# Altium footprint library 2021-03-05_17-49-49.PcbLib: 1 footprints
Each footprint in its own frame and in the unit in brackets; x right, y up, seen from the top. Pads: shape width x height; smd on the part's side, far side on the other; paste and mask are expansions set on the pad; w line width, h text height; cw(c..) or ccw(c..) is an arc to the next point about the centre after c.
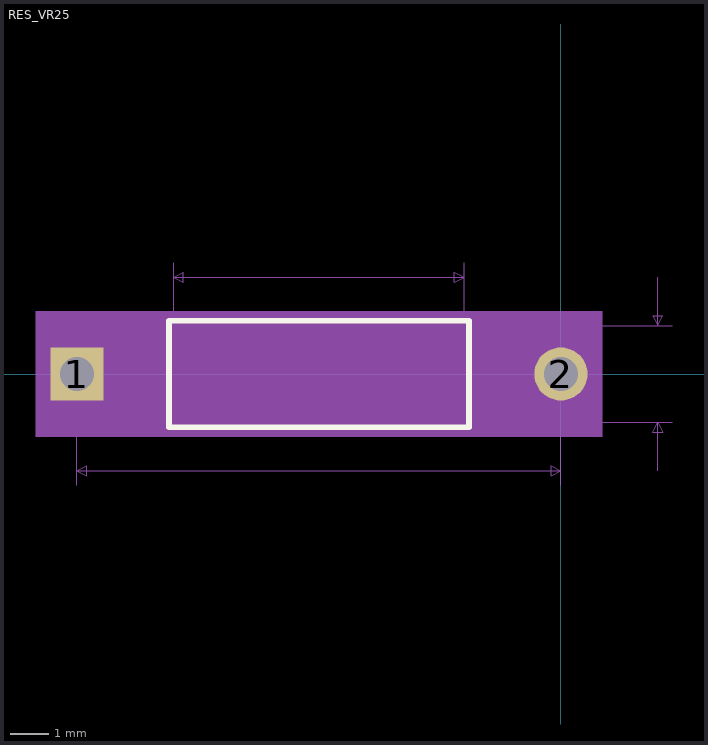
[diagram p0: the footprint, top view; thin cyan lines are the x and y axes]

## RES_VR25 [mil]
pads (2):
  rect 55x55 hole 35: 1(-500,0)
  round 55 hole 35: 2(0,0)
Top Overlay:
  lines w6: -405,-55 -405,55 -95,55 -95,-55 -405,-55
Mechanical 5:
  region: 42.5,-65 -542.5,-65 -542.5,65 42.5,65
Mechanical 7:
  lines w1: -500,-115 -500,0 ; -400,50 -400,115 ; -100,-50 115,-50 ; -100,115 -100,50 115,50 ; 0,-115 0,0 ; 100,-100 100,-50 ; 100,100 100,50 ; -500,-100 -490,-105 -490,-95 -500,-100 ; -500,-100 0,-100 ; -400,100 -390,95 -390,105 -400,100 ; -400,100 -100,100 ; -100,100 -110,95 -110,105 -100,100 ; 0,-100 -10,-105 -10,-95 0,-100 ; 100,-50 105,-60 95,-60 100,-50 ; 100,50 105,60 95,60 100,50
  text "0.3in/7.62mm" at -325,120 h25
  text "0.5in/12.7mm" at -325,-145 h25
  text "0.1in/2.54mm" at 120,-12.5 h25
  text "Alt 2 Pad Style: OX90Y60D30P" at -600,-480 h50
  text "Alt 1 Pad Style: OX60Y90D30P" at -600,-405 h50
  text "Default Pad Style: EX55Y55D35P" at -625,-330 h50
  text "Pin 1 Pad Style: SX55Y55D35P" at -600,-255 h50
Mechanical 13:
  lines w1: -500,0 -400,0 ; -100,0 0,0 ; -400,-50 -400,50 -100,50 -100,-50 -400,-50
Mechanical 15:
  region: -410,-37.5 -537.5,-37.5 -537.5,37.5 -410,37.5 -410,60 -90,60 -90,37.5 37.5,37.5 37.5,-37.5 -90,-37.5 -90,-60 -410,-60
  lines w6: -537.5,-37.5 -410,-37.5 -410,-60 -90,-60 -90,-37.5 37.5,-37.5 37.5,37.5 -90,37.5 -90,60 -410,60 -410,37.5 -537.5,37.5 -537.5,-37.5
3D body: height 10, standoff 0, extent 0,0 10,10